# EAGLE library part MC68HC*08JB8J (library Motorola_HC08)
Motorola HC08 MC68HC908JB8 microcontrollers jean-francois@frebourg.com
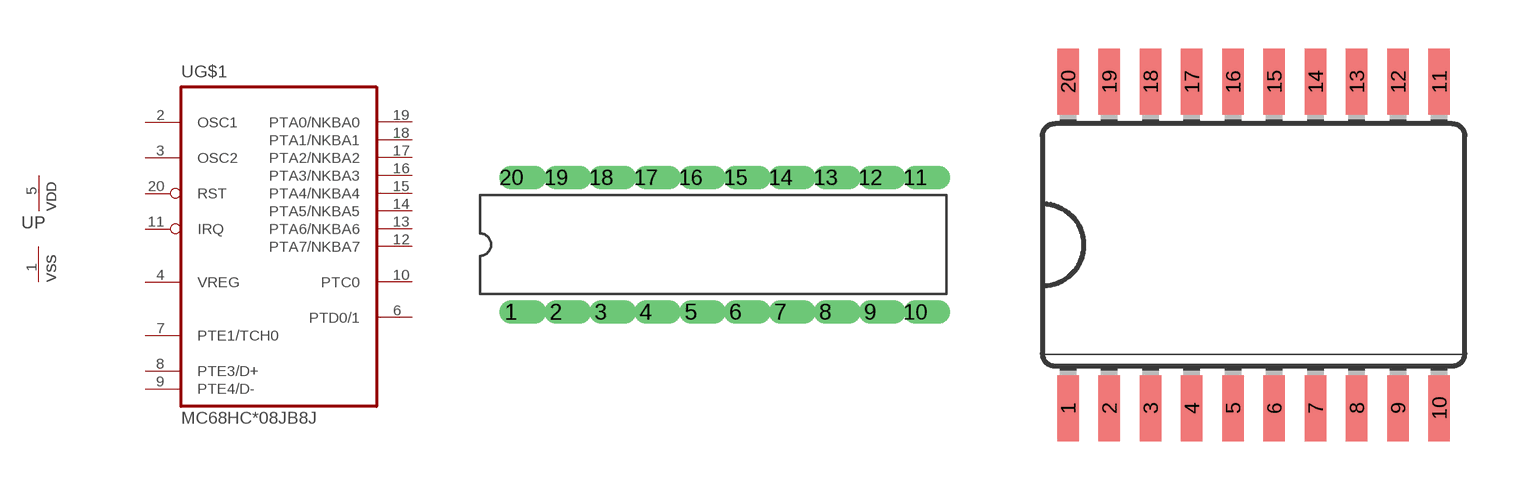
[diagram p0: symbol with the pads of DIL20; footprints DIL20, SO20W]

Designator prefix U; gates G$1=HC08JB_20 P=PWRN

## MC68HC08JB8JP, MC68HC908JB8JP  [DIL20]
1  P:VSS  pwr
2  G$1:OSC1  in
3  G$1:OSC2  out
4  G$1:VREG  pwr
5  P:VDD  pwr
6  G$1:PTD0/1
7  G$1:PTE1/TCH0
8  G$1:PTE3/D+
9  G$1:PTE4/D-
10  G$1:PTC0
11  G$1:IRQ  in
12  G$1:PTA7/NKBA7
13  G$1:PTA6/NKBA6
14  G$1:PTA5/NKBA5
15  G$1:PTA4/NKBA4
16  G$1:PTA3/NKBA3
17  G$1:PTA2/NKBA2
18  G$1:PTA1/NKBA1
19  G$1:PTA0/NKBA0
20  G$1:RST

## MC68HC08JB8JDW, MC68HC908JB8JDW  [SO20W]
Pads as for DIL20

## Footprint DIL20 (pad centres in mm)
20 Dual In Line Package (PDIP)
drill 0.813 offset: 1 -11.43,-3.81; 2 -8.89,-3.81; 3 -6.35,-3.81; 4 -3.81,-3.81; 5 -1.27,-3.81; 6 1.27,-3.81; 7 3.81,-3.81; 8 6.35,-3.81; 9 8.89,-3.81; 10 11.43,-3.81; 11 11.43,3.81; 12 8.89,3.81; 13 6.35,3.81; 14 3.81,3.81; 15 1.27,3.81; 16 -1.27,3.81; 17 -3.81,3.81; 18 -6.35,3.81; 19 -8.89,3.81; 20 -11.43,3.81

## Footprint SO20W (pad centres in mm)
Wide Small Outline package 300 mil
smd 0.66 x 2.032: 1 -5.715,-5.029; 2 -4.445,-5.029; 3 -3.175,-5.029; 4 -1.905,-5.029; 5 -0.635,-5.029; 6 0.635,-5.029; 7 1.905,-5.029; 8 3.175,-5.029; 9 4.445,-5.029; 10 5.715,-5.029; 11 5.715,5.029; 12 4.445,5.029; 13 3.175,5.029; 14 1.905,5.029; 15 0.635,5.029; 16 -0.635,5.029; 17 -1.905,5.029; 18 -3.175,5.029; 19 -4.445,5.029; 20 -5.715,5.029